# EAGLE library part 6PIN (library nintendo-classic)
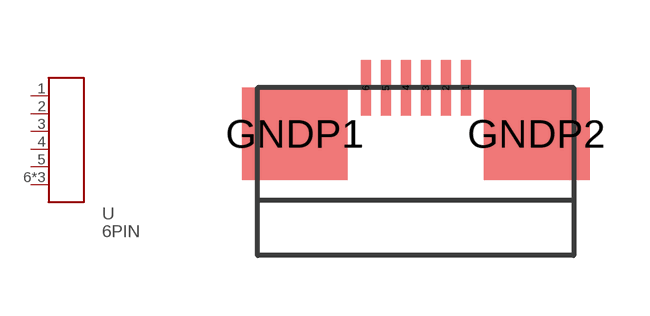
[diagram p6: symbol with the pads of SFV6R-3STBE1HLF; footprint SFV6R-3STBE1HLF]

Designator prefix -

## 6PIN  [SFV6R-3STBE1HLF]
1  1
2  2
3  3
4  4
5  5
6  6
GNDP1  6
GNDP2  6

## Footprint SFV6R-3STBE1HLF (pad centres in mm)
XF2L 0.5mm pitch 8 pins, ZIF Single-LockingConnector (omrom) store: Digi-Key http://digikey.com/jp/digihome.html
smd 0.25 x 1.4: 1 1.25,2.15; 2 0.75,2.15; 3 0.25,2.15; 4 -0.25,2.15; 5 -0.75,2.15; 6 -1.25,2.15
smd 2.65 x 2.3: GNDP1 -3.025,1; GNDP2 3.025,1